# EAGLE library part LCD_BOARD (library anasoft)
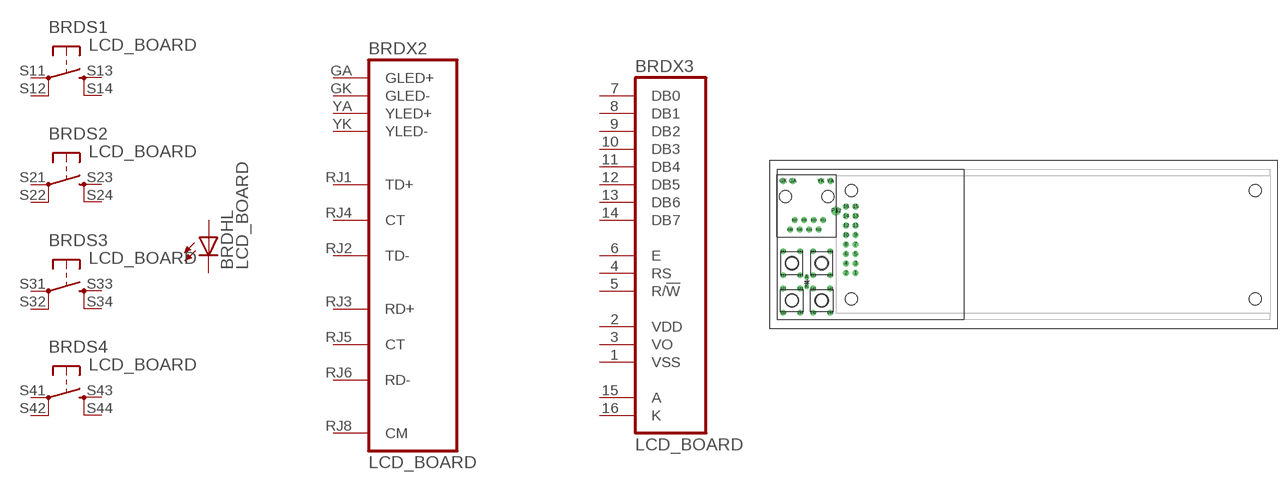
[diagram p11: symbol with the pads of LCD_BOARD; footprint LCD_BOARD]

Designator prefix BRD; gates X3=LCD_HD44780 X2=LMJ2138812S0LOT6C S1=TS2 S2=TS2 S3=TS2 S4=TS2 HL=LED

## LCD_BOARD  [LCD_BOARD]
1  X3:VSS  pwr
2  X3:VDD  pwr
3  X3:VO  pas
4  X3:RS  in
5  X3:R/!W  in
6  X3:E  in
7  X3:DB0
8  X3:DB1
9  X3:DB2
10  X3:DB3
11  X3:DB4
12  X3:DB5
13  X3:DB6
14  X3:DB7
15  X3:A  pas
16  X3:K  pas
A  HL:A  pas
GA  X2:GLED+  pas
GK  X2:GLED-  pas
K  HL:C  pas
RJ1  X2:TD+  pas
RJ2  X2:TD-  pas
RJ3  X2:RD+  pas
RJ4  X2:CT  pas
RJ5  X2:CT  pas
RJ6  X2:RD-  pas
RJ8  X2:CM  pas
S11  S1:P  pas
S12  S1:P1  pas
S13  S1:S  pas
S14  S1:S1  pas
S21  S2:P  pas
S22  S2:P1  pas
S23  S2:S  pas
S24  S2:S1  pas
S31  S3:P  pas
S32  S3:P1  pas
S33  S3:S  pas
S34  S3:S1  pas
S41  S4:P  pas
S42  S4:P1  pas
S43  S4:S  pas
S44  S4:S1  pas
YA  X2:YLED+  pas
YK  X2:YLED-  pas

## Footprint LCD_BOARD (pad centres in mm)
drill 1 round: 1 21.04,12.38; 2 18.5,12.38; 3 21.04,14.92; 4 18.5,14.92; 5 21.04,17.46; 6 18.5,17.46; 7 21.04,20; 8 18.5,20; 9 21.04,22.54; 10 18.5,22.54; 11 21.04,25.08; 12 18.5,25.08; 13 21.04,27.62; 14 18.5,27.62; 15 21.04,30.16; 16 18.5,30.16; GA 4.205,37; GK 1.665,37; RJ1 12.445,26.54; RJ2 11.175,24; RJ3 9.905,26.54; RJ4 8.635,24; RJ5 7.365,26.54; RJ6 6.095,24; RJ7 4.825,26.54; RJ8 3.555,24; S11 1.75,18.25; S12 1.75,11.75; S13 6.25,18.25; S14 6.25,11.75; S21 9.75,18.25; S22 9.75,11.75; S23 14.25,18.25; S24 14.25,11.75; S31 1.75,8.25; S32 1.75,1.75; S33 6.25,8.25; S34 6.25,1.75; S41 9.75,8.25; S42 9.75,1.75; S43 14.25,8.25; S44 14.25,1.75; YA 14.335,37; YK 11.795,37
drill 0.813 octagon: A 8,11.27; K 8,8.73
drill 1.6 round: P$2 15.875,29
hole 3.2 at 20,34.5
hole 3.2 at 20,5.5
hole 3.2 at 128,34.5
hole 3.2 at 128,5.5
hole 3.2 at 13.715,32.89
hole 3.2 at 2.285,32.89